# Altium schematic symbol library B105analog_ic.SchLib: 24 symbols
Pins are listed as number, name and electrical type; pins without a type are passive.

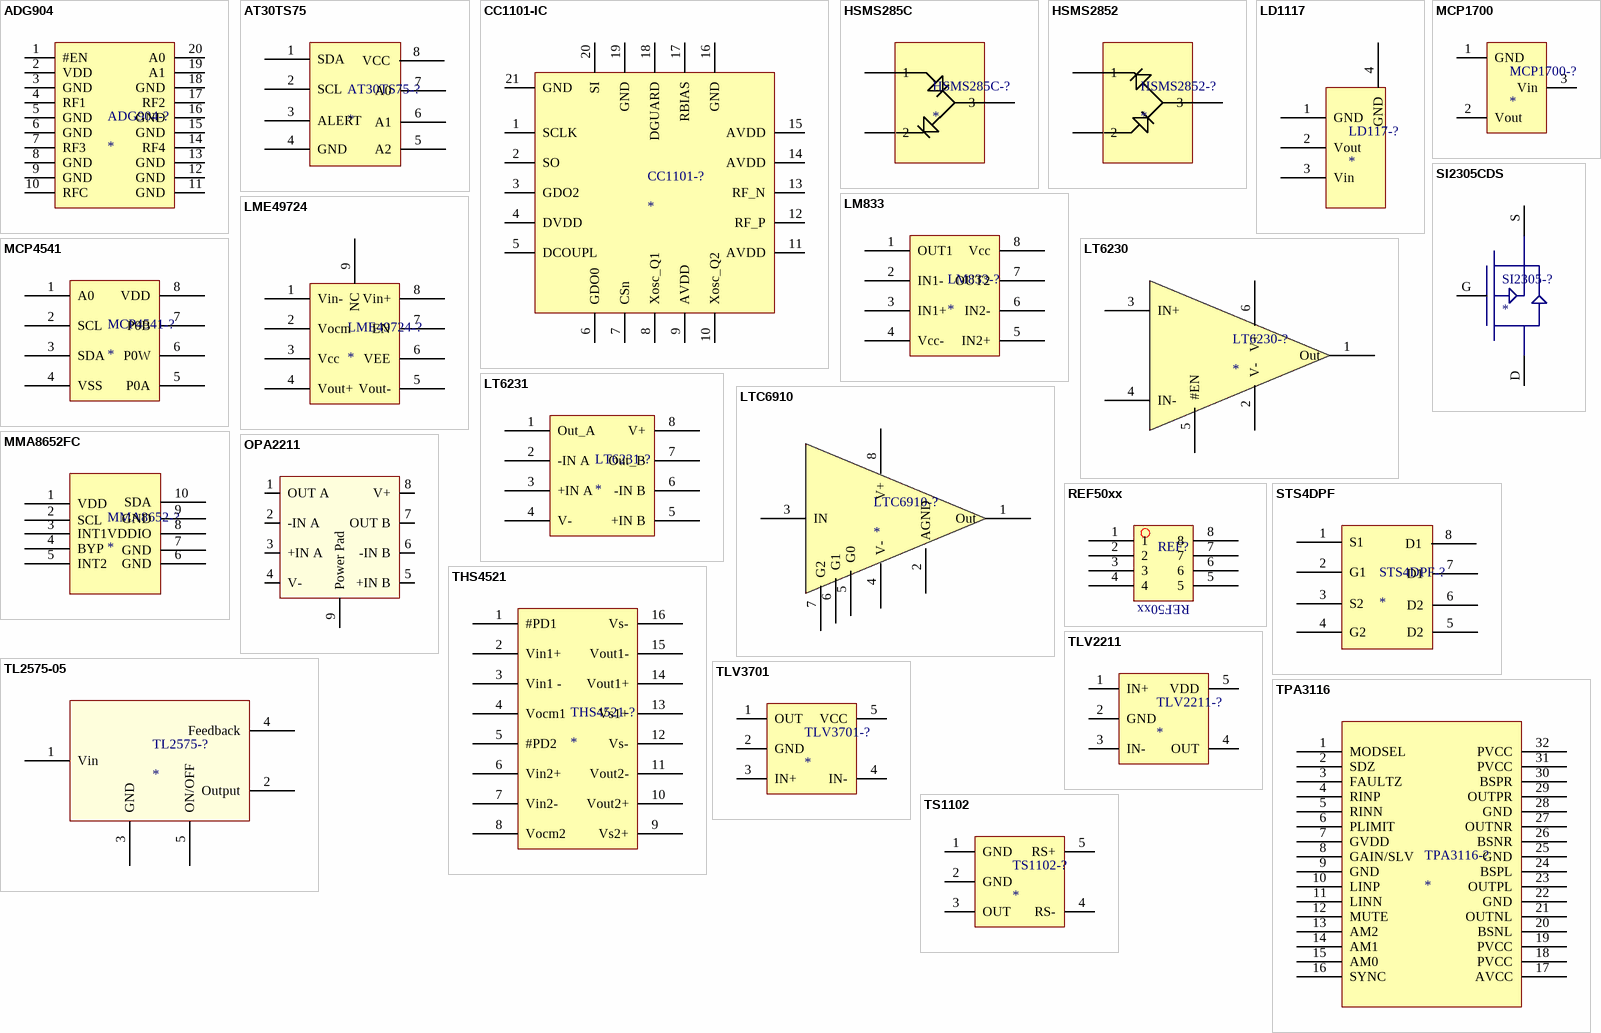
[diagram p0: symbols ADG904 to TS1102]

## ADG904
designator ADG904-?
footprint TSSOP-20 (TSOP, 20-Leads, Body 6,50x4,40mm, Pitch 0,65mm, IPC Medium Density)
pins: 1 #EN, 2 VDD, 3 GND, 4 RF1, 5 GND, 6 GND, 7 RF3, 8 GND, 9 GND, 10 RFC, 11 GND, 12 GND, 13 GND, 14 RF4, 15 GND, 16 GND, 17 RF2, 18 GND, 19 A1, 20 A0

## AT30TS75
designator AT30TS75-?
footprint MSOP-8 (TSOP, 8-Leads, Body 3,00x3,00mm, Pitch 0,65mm, IPC Medium Density)
pins: 1 SDA, 2 SCL, 3 ALERT, 4 GND, 5 A2, 6 A1, 7 A0, 8 VCC

## CC1101-IC
designator CC1101-?
footprint QFN-20 (QFN, 20-Leads, Body 4,00x4,00mm, Pitch 0,50mm, Thermal Pad 2,00x2,00mm, IPC Medium Density)
pins: 1 SCLK, 2 SO, 3 GDO2, 4 DVDD, 5 DCOUPL, 6 GDO0, 7 CSn, 8 Xosc_Q1, 9 AVDD, 10 Xosc_Q2, 11 AVDD, 12 RF_P, 13 RF_N, 14 AVDD, 15 AVDD, 16 GND, 17 RBIAS, 18 DGUARD, 19 GND, 20 SI, 21 GND

## HSMS285C
designator HSMS285C-?
footprint SOT-323-3-SC70 (TSOP, 3-Leads, Body 2,03x1,25mm, Pitch 0,65mm, IPC Medium Density)
pins: 1, 2, 3

## HSMS2852
designator HSMS2852-?
footprint SOT-23-3 (SOT23, 3-Leads, Body 2,93x2,80mm, Pitch 0,95mm, IPC Medium Density)
pins: 1, 2, 3

## LD1117
designator LD117-?
footprint SOT-223 (SOT223, 4-Leads, Body 6,40x7,00mm (avg), Pitch 2,30mm, IPC Medium Density)
pins: 1 GND, 2 Vout, 3 Vin, 4 GND

## LM833
designator LM833-?
footprint MSOP-8 (TSOP, 8-Leads, Body 3,00x3,00mm, Pitch 0,65mm, IPC Medium Density)
pins: 1 OUT1, 2 IN1-, 3 IN1+, 4 Vcc-, 5 IN2+, 6 IN2-, 7 OUT2, 8 Vcc

## LME49724
designator LME49724-?
footprint SOIC-8-Thermal (SOIC, 8-Leads, Body 4.90x3.90mm, Pitch 1.27mm, Thermal Pad 3.00.2x1.80.2mm, IPC Low Density)
pins: 1 Vin-, 2 Vocm, 3 Vcc, 4 Vout+, 5 Vout-, 6 VEE, 7 EN, 8 Vin+, 9 NC

## LT6230
designator LT6230-?
footprint TSOT-23-6 (SOT23, 6-Leads, Body 2,95x2,80mm, Pitch 0,95mm, IPC Medium Density)
pins: 1 Out, 2 V-, 3 IN+, 4 IN-, 5 #EN, 6 V+

## LT6231
designator LT6231-?
footprint SOIC-8 (SOIC, 8-Leads, Body 4.90x3.90mm, Pitch 1.27mm, Thermal Pad 3.00.2x1.80.2mm, IPC Low Density)
footprint DFN-8N (3mmx3mm)
pins: 1 Out_A, 2 -IN A, 3 +IN A, 4 V-, 5 +IN B, 6 -IN B, 7 Out_B, 8 V+

## LTC6910
designator LTC6910-?
footprint TSOT-23-8 (TSOP, 8-Leads, Body 2,90x1,63mm, Pitch 0,65mm, IPC Medium Density)
pins: 1 Out, 2 AGND, 3 IN, 4 V-, 5 G0, 6 G1, 7 G2, 8 V+

## MCP1700
designator MCP1700-?
footprint SOT-23-3 (SOT23, 3-Leads, Body 2,93x2,80mm, Pitch 0,95mm, IPC Medium Density)
pins: 1 GND, 2 Vout, 3 Vin

## MCP4541
designator MCP4541-?
footprint MSOP-8 (TSOP, 8-Leads, Body 3,00x3,00mm, Pitch 0,65mm, IPC Medium Density)
pins: 1 A0, 2 SCL, 3 SDA, 4 VSS, 5 P0A, 6 P0W, 7 P0B, 8 VDD

## MMA8652FC
designator MMA8652-?
footprint DFN - 10
pins: 1 VDD, 2 SCL, 3 INT1, 4 BYP, 5 INT2, 6 GND, 7 GND, 8 VDDIO, 9 GND, 10 SDA

## OPA2211
designator OPA2211-?  (value not drawn)
footprint DFN-8N (3mmx3mm)
footprint SOIC-8-Thermal (SOIC, 8-Leads, Body 4.90x3.90mm, Pitch 1.27mm, Thermal Pad 3.00.2x1.80.2mm, IPC Low Density)
pins: 1 OUT A, 2 -IN A, 3 +IN A, 4 V- (power), 5 +IN B, 6 -IN B, 7 OUT B, 8 V+ (power), 9 Power Pad

## REF50xx
designator REF?  (value not drawn)
IC, VOLTAGE REF, 2.5V, 3PPM DEG
footprint SOIC-8 (SOIC, 8-Leads, Body 4,90x3,90mm, Pitch 1,27mm, IPC Medium Density)
pins: 1, 2, 3, 4, 5, 6, 7, 8

## SI2305CDS
designator SI2305-?
footprint SOT-23-3 (SOT23, 3-Leads, Body 2,93x2,80mm, Pitch 0,95mm, IPC Medium Density); pin to pad D>3 G>1 S>2
pins: D, G, S

## STS4DPF
designator STS4DPF-?
footprint SOIC-8 (SOIC, 8-Leads, Body 4,90x3,90mm, Pitch 1,27mm, IPC Medium Density)
pins: 1 S1, 2 G1, 3 S2, 4 G2, 5 D2, 6 D2, 7 D1, 8 D1

## THS4521
designator THS4521-?
footprint TSSOP-16 (TSOP, 16-Leads, Body 5,00x4,40mm, Pitch 0,65mm, IPC Medium Density)
pins: 1 #PD1, 2 Vin1+, 3 Vin1 -, 4 Vocm1, 5 #PD2, 6 Vin2+, 7 Vin2-, 8 Vocm2, 9 Vs2+, 10 Vout2+, 11 Vout2-, 12 Vs-, 13 Vs1+, 14 Vout1+, 15 Vout1-, 16 Vs-

## TL2575-05
designator TL2575-?
footprint TO-263
pins: 1 Vin, 2 Output, 3 GND, 4 Feedback, 5 ON/OFF

## TLV2211
designator TLV2211-?
footprint SOT-23-5 (SOT23, 5-Leads, Body 2,93x2,80mm, Pitch 0,95mm, IPC Medium Density)
pins: 1 IN+, 2 GND, 3 IN-, 4 OUT, 5 VDD

## TLV3701
designator TLV3701-?
footprint SOT-23-5 (SOT23, 5-Leads, Body 2,93x2,80mm, Pitch 0,95mm, IPC Medium Density)
pins: 1 OUT, 2 GND, 3 IN+, 4 IN-, 5 VCC

## TPA3116
designator TPA3116-?
footprint TSSOP-32 (TSOP, 32-Leads, Body 11,00x6,10mm, Pitch 0,65mm, IPC Medium Density)
pins: 1 MODSEL, 2 SDZ, 3 FAULTZ, 4 RINP, 5 RINN, 6 PLIMIT, 7 GVDD, 8 GAIN/SLV, 9 GND, 10 LINP, 11 LINN, 12 MUTE, 13 AM2, 14 AM1, 15 AM0, 16 SYNC, 17 AVCC, 18 PVCC, 19 PVCC, 20 BSNL, 21 OUTNL, 22 GND, 23 OUTPL, 24 BSPL, 25 GND, 26 BSNR, 27 OUTNR, 28 GND, 29 OUTPR, 30 BSPR, 31 PVCC, 32 PVCC

## TS1102
designator TS1102-?
footprint SOT-23-5 (SOT23, 5-Leads, Body 2,93x2,80mm, Pitch 0,95mm, IPC Medium Density)
pins: 1 GND, 2 GND, 3 OUT, 4 RS-, 5 RS+